# Altium footprint library Osciloscope_library.PcbLib: 12 footprints
Each footprint in its own frame and in the unit in brackets; x right, y up, seen from the top. Pads: shape width x height; smd on the part's side, far side on the other; paste and mask are expansions set on the pad; w line width, h text height; cw(c..) or ccw(c..) is an arc to the next point about the centre after c.
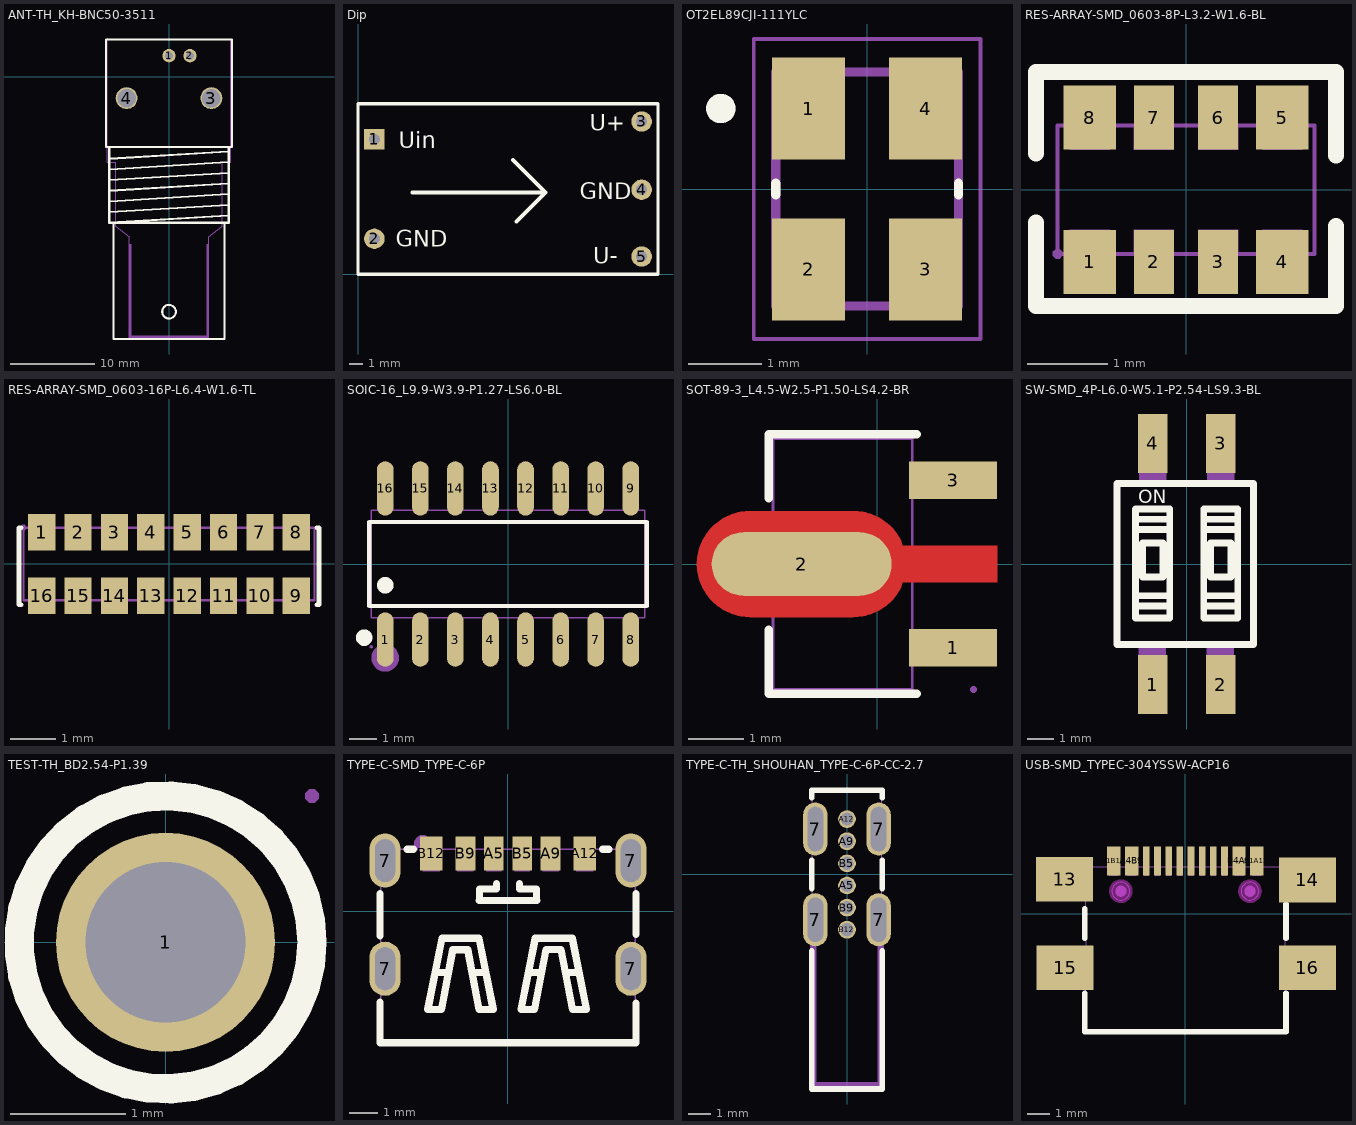
[diagram p0: the footprints below, top view; thin cyan lines are the x and y axes]

## ANT-TH_KH-BNC50-3511 [mm]
pads (4):
  round 1.6 hole 1 paste-2539.97 mask+0.05: 1(0,2.525) 2(2.5,2.525)
  round 2.601 hole 2.2 paste-2539.97 mask+0.05: 3(5.05,-2.525) 4(-5.05,-2.525)
Top Overlay:
  circle w0.254: c0,-27.955 r0.813
  lines w0.254: -7.112,-8.346 -7.112,-17.363 -7.087,-17.363 ; -7.087,-16.093 7.087,-15.23 ; -7.087,-14.823 7.087,-13.96 ; -7.087,-13.553 7.087,-12.69 ; -7.087,-12.283 7.087,-11.42 ; -7.087,-11.013 7.087,-10.15 ; -7.087,-9.743 7.087,-8.88 ; 7.087,-16.5 -7.087,-17.363 ; 7.112,-8.346 7.112,-17.363 6.604,-17.363 ; -7.087,-17.363 -6.604,-17.363 ; -6.604,-17.363 -6.604,-31.206 6.604,-31.206 6.604,-17.363 ; -6.604,-17.363 6.604,-17.363 ; -7.493,-8.342 7.493,-8.342 7.493,4.46 -7.493,4.46 -7.493,-8.342
Mechanical 6:
  region: 4.7,-19.9 4.7,-31 -4.7,-31 -4.7,-19.9 -4.5,-19.9 -4.5,-30.8 4.5,-30.8 4.5,-19.9
Mechanical 15:
  region: -4.15,-3.425 -5.95,-3.425 -5.95,-1.625 -4.15,-1.625
  region: 5.95,-3.425 4.15,-3.425 4.15,-1.625 5.95,-1.625
  region: -7.29,4.46 -7.291,4.484 -7.326,4.518 -7.374,4.518 -7.409,4.484 -7.41,4.46 -7.409,4.436 -7.374,4.402 -7.326,4.402 -7.291,4.436 -7.29,4.46
  region: 0.3,2.525 0.299,2.584 0.253,2.693 0.169,2.777 0.059,2.822 -0.059,2.822 -0.169,2.777 -0.253,2.693 -0.299,2.584 -0.3,2.525 -0.299,2.466 -0.253,2.357 -0.169,2.273 -0.059,2.228 0.059,2.228 0.169,2.273 0.253,2.357 0.299,2.466 0.3,2.525
  region: 2.8,2.525 2.799,2.584 2.753,2.693 2.669,2.777 2.559,2.822 2.441,2.822 2.331,2.777 2.247,2.693 2.201,2.584 2.2,2.525 2.201,2.466 2.247,2.357 2.331,2.273 2.441,2.228 2.559,2.228 2.669,2.273 2.753,2.357 2.799,2.466 2.8,2.525
  lines w0.051: -7.35,-10.16 -6.35,-10.16 -6.35,-17.78 -4.75,-19.05 -4.75,-31.04 4.75,-31.04 4.75,-19.05 6.35,-17.78 6.35,-10.16 7.35,-10.16 7.35,4.46 -7.35,4.46 -7.35,-10.16
3D body "73100-0131.STEP": height 13.25, standoff -4.98, extent -7.412,-30.379 7.348,4.801

## Dip [mm]
pads (5):
  rect 1.5x1.5 hole 0.8: 1(1.199,9.9)
  round 1.5 hole 0.8: 2(1.2,2.6) 3(20.8,11.2) 4(20.8,6.2) 5(20.8,1.3)
Top Overlay:
  lines w0.254: 0,0 22,0 22,12.5 12.5,12.5 0,12.5 0,0
  lines w0.3: 4,6 13.75,6 ; 11.375,8.375 13.75,6 ; 11.625,3.875 13.75,6
  text "U-" at 17.254,0.754 h1.2
  text "U+" at 17.004,10.504 h1.2
  text "GND" at 16.254,5.504 h1.2
  text "GND" at 2.754,2.004 h1.2
  text "Uin" at 3.004,9.254 h1.2

## OT2EL89CJI-111YLC [mm]
height 1.2
pads (4):
  rect 1x1.4 smd: 1(-0.8,1.1) 2(-0.8,-1.1) 3(0.8,-1.1) 4(0.8,1.1)
Top Overlay:
  circle w0.2: c-2,1.1 r0.1
  lines w0.127: -1.25,-0.08 -1.25,0.08 ; 1.25,-0.08 1.25,0.08
Mechanical 13:
  circle w0.2: c-2,1.1 r0.1
  lines w0.127: -1.25,-1.6 -1.25,1.6 1.25,1.6 1.25,-1.6 -1.25,-1.6
Mechanical 15:
  lines w0.05: -1.55,-2.05 -1.55,2.05 1.55,2.05 1.55,-2.05 -1.55,-2.05
3D body "ECS-250-6-33B2-CTN-TR3.STEP": height 1.25, standoff -1.25, extent -1.6,-0.254 1.6,0.546

## RES-ARRAY-SMD_0603-8P-L3.2-W1.6-BL [mm]
pads (8):
  rect 0.65x0.8 smd paste+0 mask+0.051: 1(-1.2,-0.9) 4(1.2,-0.9) 5(1.2,0.9) 8(-1.2,0.9)
  rect 0.5x0.8 smd paste+0 mask+0.051: 2(-0.4,-0.9) 3(0.4,-0.9) 6(0.4,0.9) 7(-0.4,0.9)
Top Overlay:
  lines w0.2: -1.87,-0.41 -1.87,-1.45 1.87,-1.45 1.87,-0.45 ; -1.87,0.45 -1.87,1.47 1.87,1.47 1.87,0.43
Mechanical 15:
  region: -1.54,-0.8 -1.54,-0.775 -1.575,-0.74 -1.625,-0.74 -1.66,-0.775 -1.66,-0.8 -1.66,-0.825 -1.625,-0.86 -1.575,-0.86 -1.54,-0.825 -1.54,-0.8
  region: -1.45,-0.8 -1.45,-0.5 -0.95,-0.5 -0.95,-0.8
  region: -1.45,0.5 -1.45,0.8 -0.95,0.8 -0.95,0.5
  region: -0.65,-0.8 -0.65,-0.5 -0.15,-0.5 -0.15,-0.8
  region: 0.15,-0.8 0.15,-0.5 0.65,-0.5 0.65,-0.8
  region: 0.15,0.5 0.15,0.8 0.65,0.8 0.65,0.5
  region: 0.95,-0.8 0.95,-0.5 1.45,-0.5 1.45,-0.8
  region: -0.65,0.5 -0.65,0.8 -0.15,0.8 -0.15,0.5
  region: 0.95,0.5 0.95,0.8 1.45,0.8 1.45,0.5
  lines w0.051: -1.6,-0.8 -1.6,0.8 1.6,0.8 1.6,-0.8 -1.6,-0.8

## RES-ARRAY-SMD_0603-16P-L6.4-W1.6-TL [mm]
pads (16):
  rect 0.6x0.8 smd paste+0 mask+0.05: 1(-2.8,0.7) 2(-2,0.7) 3(-1.2,0.7) 4(-0.4,0.7) 5(0.4,0.7) 6(1.2,0.7) 7(2,0.7) 8(2.8,0.7) 9(2.8,-0.7) 10(2,-0.7) 11(1.2,-0.7) 12(0.4,-0.7) 13(-0.4,-0.7) 14(-1.2,-0.7) 15(-2,-0.7) 16(-2.8,-0.7)
Top Overlay:
  lines w0.1: -3.254,-0.9 -3.3,-0.9 -3.3,0.8 -3.254,0.8 ; 3.254,-0.9 3.3,-0.9 3.3,0.8 3.254,0.8
Mechanical 15:
  region: -3.14,0.8 -3.14,0.825 -3.175,0.86 -3.225,0.86 -3.26,0.825 -3.26,0.8 -3.26,0.775 -3.225,0.74 -3.175,0.74 -3.14,0.775 -3.14,0.8
  region: -3.05,-0.8 -3.05,-0.4 -2.55,-0.4 -2.55,-0.8
  region: -2.25,-0.8 -2.25,-0.4 -1.75,-0.4 -1.75,-0.8
  region: -1.45,-0.8 -1.45,-0.4 -0.95,-0.4 -0.95,-0.8
  region: -0.65,-0.8 -0.65,-0.4 -0.15,-0.4 -0.15,-0.8
  region: 0.15,-0.8 0.15,-0.4 0.65,-0.4 0.65,-0.8
  region: 0.95,-0.8 0.95,-0.4 1.45,-0.4 1.45,-0.8
  region: 1.75,-0.8 1.75,-0.4 2.25,-0.4 2.25,-0.8
  region: 2.55,-0.8 2.55,-0.4 3.05,-0.4 3.05,-0.8
  region: 2.55,0.4 2.55,0.8 3.05,0.8 3.05,0.4
  region: 1.75,0.4 1.75,0.8 2.25,0.8 2.25,0.4
  region: 0.95,0.4 0.95,0.8 1.45,0.8 1.45,0.4
  region: 0.15,0.4 0.15,0.8 0.65,0.8 0.65,0.4
  region: -0.65,0.4 -0.65,0.8 -0.15,0.8 -0.15,0.4
  region: -1.45,0.4 -1.45,0.8 -0.95,0.8 -0.95,0.4
  region: -2.25,0.4 -2.25,0.8 -1.75,0.8 -1.75,0.4
  region: -3.05,0.4 -3.05,0.8 -2.55,0.8 -2.55,0.4
  lines w0.051: -3.2,-0.8 -3.2,0.8 3.2,0.8 3.2,-0.8 -3.2,-0.8

## SOIC-16_L9.9-W3.9-P1.27-LS6.0-BL [mm]
pads (16):
  oval 0.602x1.971 smd paste+0 mask+0.051: 1(-4.445,-2.736) 2(-3.175,-2.736) 3(-1.905,-2.736) 4(-0.635,-2.736) 5(0.635,-2.736) 6(1.905,-2.736) 7(3.175,-2.736) 8(4.445,-2.736) 9(4.445,2.736) 10(3.175,2.736) 11(1.905,2.736) 12(0.635,2.736) 13(-0.635,2.736) 14(-1.905,2.736) 15(-3.175,2.736) 16(-4.445,2.736)
Top Overlay:
  circle w0.3: c-5.207,-2.667 r0.15
  circle w0.3: c-4.445,-0.769 r0.15
  lines w0.152: -5.026,-1.521 5.026,-1.521 5.026,1.521 -5.026,1.521 -5.026,-1.521
Mechanical 6:
  circle w0.5: c-4.445,-3.4 r0.25
Mechanical 15:
  drawing of 37 lines, arcs and shapes, not listed

## SOT-89-3_L4.5-W2.5-P1.50-LS4.2-BR [mm]
pads (3):
  rect 1.575x0.672 smd paste+0 mask+0.051: 1(1.356,-1.5) 3(1.356,1.5)
  oval 3.226x1.14 smd: 2(-1.356,0)
Top Layer:
  region: -2.283,0.95 -0.429,0.95 -0.384,0.949 -0.34,0.946 -0.296,0.94 -0.252,0.933 -0.208,0.924 -0.165,0.912 -0.123,0.899 -0.081,0.884 -0.04,0.866 0,0.847 0.04,0.826 0.078,0.803 0.115,0.779 0.151,0.752 0.185,0.724 0.219,0.695 0.251,0.664 0.281,0.631 0.31,0.597 0.337,0.562 0.362,0.525 0.386,0.488 0.408,0.449 0.428,0.409 0.447,0.33 2.144,0.33 2.144,-0.33 0.447,-0.33 0.428,-0.409 0.408,-0.449 0.386,-0.488 0.362,-0.526 0.337,-0.562 0.31,-0.597 0.281,-0.631 0.251,-0.664 0.219,-0.695 0.185,-0.725 0.151,-0.753 0.115,-0.779 0.078,-0.804 0.04,-0.827 0,-0.848 -0.04,-0.867 -0.081,-0.884 -0.123,-0.899 -0.165,-0.913 -0.208,-0.924 -0.252,-0.934 -0.296,-0.941 -0.34,-0.946 -0.384,-0.949 -0.429,-0.95 -2.283,-0.95 -2.328,-0.949 -2.372,-0.946 -2.416,-0.941 -2.46,-0.934 -2.504,-0.924 -2.547,-0.913 -2.589,-0.899 -2.631,-0.884 -2.672,-0.867 -2.713,-0.848 -2.752,-0.827 -2.79,-0.804 -2.827,-0.779 -2.863,-0.753 -2.898,-0.725 -2.931,-0.695 -2.963,-0.664 -2.993,-0.631 -3.022,-0.597 -3.049,-0.562 -3.075,-0.526 -3.098,-0.488 -3.12,-0.449 -3.141,-0.409 -3.159,-0.369 -3.175,-0.327 -3.189,-0.285 -3.202,-0.242 -3.212,-0.199 -3.22,-0.155 -3.227,-0.111 -3.231,-0.067 -3.233,-0.022 -3.233,0.022 -3.231,0.067 -3.227,0.111 -3.22,0.155 -3.212,0.199 -3.202,0.242 -3.189,0.285 -3.175,0.327 -3.159,0.369 -3.141,0.409 -3.12,0.449 -3.098,0.488 -3.075,0.525 -3.049,0.562 -3.022,0.597 -2.993,0.631 -2.963,0.664 -2.931,0.695 -2.898,0.724 -2.863,0.752 -2.827,0.779 -2.79,0.803 -2.752,0.826 -2.713,0.847 -2.672,0.866 -2.631,0.884 -2.589,0.899 -2.547,0.912 -2.504,0.924 -2.46,0.933 -2.416,0.94 -2.372,0.946 -2.328,0.949
Top Overlay:
  lines w0.152: -1.95,-1.177 -1.95,-2.326 0.702,-2.326 ; -1.95,1.177 -1.95,2.326 0.702,2.326
Mechanical 6:
  circle w0.3: c1.715,-1.5 r0.15
Mechanical 15:
  region: 1.784,-2.25 1.784,-2.225 1.749,-2.19 1.699,-2.19 1.664,-2.225 1.664,-2.25 1.664,-2.275 1.699,-2.31 1.749,-2.31 1.784,-2.275 1.784,-2.25
  region: 0.439,-0.26 1.724,-0.26 1.724,0.26 0.439,0.26 -0.136,0.863 -2,0.863 -2.471,0.288 -2.471,-0.287 -2,-0.862 -0.136,-0.862
  region: 0.624,-1.25 1.724,-1.25 1.724,-1.75 0.624,-1.75
  region: 0.624,1.75 1.724,1.75 1.724,1.25 0.624,1.25
  lines w0.051: -1.874,-2.25 -1.874,2.25 0.626,2.25 0.626,-2.25 -1.874,-2.25

## SW-SMD_4P-L6.0-W5.1-P2.54-LS9.3-BL [mm]
pads (4):
  rect 1.1x2.2 smd paste+0 mask+0.05: 1(-1.27,-4.5) 2(1.27,-4.5) 3(1.27,4.5) 4(-1.27,4.5)
Top Overlay:
  lines w0.254: -1.905,-1.569 -0.635,-1.569 ; -1.905,-1.188 -0.635,-1.188 ; -1.905,1.288 -0.635,1.288 ; -1.905,1.669 -0.635,1.669 ; 0.635,-1.569 1.905,-1.569 ; 0.635,-1.188 1.905,-1.188 ; 0.635,1.288 1.905,1.288 ; 0.635,1.669 1.905,1.669 ; -2.6,-3 2.5,-3 2.5,3 -2.6,3 -2.6,-3 ; -1.905,-2.014 -0.635,-2.014 -0.635,2.05 -1.905,2.05 -1.905,-2.014 ; -1.651,-0.49 -0.889,-0.49 -0.889,0.78 -1.651,0.78 -1.651,-0.49 ; 0.635,-2.014 1.905,-2.014 1.905,2.05 0.635,2.05 0.635,-2.014 ; 0.889,-0.49 1.651,-0.49 1.651,0.78 0.889,0.78 0.889,-0.49
  text "ON" at -1.806,2.264 h0.5
Mechanical 15:
  region: -0.784,-3.854 -1.784,-3.854 -1.784,-2.984 -0.784,-2.984
  region: -0.97,3.85 -1.57,3.85 -1.57,4.65 -0.97,4.65
  region: 1.57,3.85 0.97,3.85 0.97,4.65 1.57,4.65
  region: -0.97,-4.65 -1.57,-4.65 -1.57,-3.85 -0.97,-3.85
  region: 1.57,-4.65 0.97,-4.65 0.97,-3.85 1.57,-3.85
  region: 1.756,-3.854 0.756,-3.854 0.756,-2.984 1.756,-2.984
  region: -0.767,2.991 -1.767,2.991 -1.767,3.861 -0.767,3.861
  region: 1.773,2.991 0.773,2.991 0.773,3.861 1.773,3.861
  lines w0.051: -2.55,-3 2.55,-3 2.55,3 -2.55,3 -2.55,-3

## TEST-TH_BD2.54-P1.39 [mm]
pads (1):
  round 1.9 hole 1.39 paste-2539.97 mask+0.051: 1(0,0)
Top Overlay:
  circle w0.254: c0,0 r1.27
Mechanical 15:
  region: 1.33,1.27 1.329,1.294 1.294,1.328 1.246,1.328 1.211,1.294 1.21,1.27 1.211,1.246 1.246,1.212 1.294,1.212 1.329,1.246 1.33,1.27
  region: -0.695,0.25 0.695,0.25 0.695,-0.25 -0.695,-0.25
  lines w0.051: -1.27,0 cw(c0,0) 1.27,0 cw(c0,0) -1.27,0

## TYPE-C-SMD_TYPE-C-6P [mm]
pads (10):
  oval 1.1x1.9 hole 0.7 slot 1.5 at 90 deg: 7(-4.32,-2.025) 7(-4.32,1.775) 7(4.32,-2.025) 7(4.32,1.775)
  rect 0.7x1.2 smd paste-100 mask+0.051: A5(-0.5,2.025) A9(1.5,2.025) B5(0.5,2.025) B9(-1.5,2.025)
  rect 0.8x1.2 smd paste-100 mask+0.051: A12(2.7,2.025) B12(-2.7,2.025)
Top Overlay:
  lines w0.25: -4.501,-3.226 -4.501,-3.203 -4.501,-4.626 4.501,-4.626 4.501,-3.226 ; -4.5,-0.867 -4.5,0.575 -4.5,0.617 ; -3.541,2.175 -3.329,2.175 ; -1.01,0.375 1.01,0.375 ; -1,0.375 -1,0.775 -0.4,0.775 -0.4,0.975 ; 0.4,0.975 0.4,0.775 1,0.775 1,0.375 ; 3.329,2.175 3.541,2.175 ; 4.5,-0.825 4.5,0.625
  lines w0.254: -2.518,-2.158 -2.119,-2.158 ; -1.219,-2.157 -0.819,-2.157 ; 0.759,-2.153 1.158,-2.153 ; 2.058,-2.152 2.458,-2.152 ; -2.818,-3.458 -2.32,-0.956 -1.019,-0.956 -0.519,-3.458 -1.014,-3.458 -1.413,-1.358 -1.941,-1.358 -2.343,-3.458 -2.818,-3.458 ; 0.459,-3.453 0.957,-0.951 2.257,-0.951 2.758,-3.453 2.263,-3.453 1.864,-1.353 1.335,-1.353 0.934,-3.453 0.459,-3.453
Top Paste:
  drawing of 10 lines, arcs and shapes, not listed
Mechanical 6:
  circle w0.3: c-3,2.375 r0.15
Mechanical 15:
  region: 4.53,-4.625 4.53,-4.6 4.495,-4.565 4.445,-4.565 4.41,-4.6 4.41,-4.625 4.41,-4.65 4.445,-4.685 4.495,-4.685 4.53,-4.65 4.53,-4.625
  region: 4.17,2.175 4.47,2.175 4.47,1.375 4.17,1.375
  region: 4.17,-1.625 4.47,-1.625 4.47,-2.425 4.17,-2.425
  region: -4.47,-1.625 -4.17,-1.625 -4.17,-2.425 -4.47,-2.425
  region: -4.47,2.175 -4.17,2.175 -4.17,1.375 -4.47,1.375
  region: -0.76,2.15 -0.24,2.15 -0.24,1.4 -0.76,1.4
  region: 0.24,2.15 0.76,2.15 0.76,1.4 0.24,1.4
  region: 1.22,2.15 1.78,2.15 1.78,1.4 1.22,1.4
  region: -1.78,2.15 -1.22,2.15 -1.22,1.4 -1.78,1.4
  region: 2.4,2.15 3,2.15 3,1.4 2.4,1.4
  region: -3,2.15 -2.4,2.15 -2.4,1.4 -3,1.4
  lines w0.051: -4.47,-4.625 -4.47,2.175 4.47,2.175 4.47,-4.625 -4.47,-4.625

## TYPE-C-TH_SHOUHAN_TYPE-C-6P-CC-2.7 [mm]
pads (10):
  oval 1.1x2.4 hole 0.7 slot 2 at 90 deg paste-2539.97 mask+0.051: 7(-1.43,-2.05) 7(-1.43,2.05) 7(1.43,-2.05) 7(1.43,2.05)
  round 0.8 hole 0.6 paste-2539.97 mask+0.051: A5(0,-0.5) A9(0,1.5) A12(0,2.5) B5(0,0.5) B9(0,-1.5) B12(0,-2.5)
Top Overlay:
  lines w0.25: -1.6,-9.7 1.6,-9.7 ; -1.6,3.8 1.6,3.8
  lines w0.254: -1.6,-9.7 -1.6,-3.462 ; -1.6,-0.638 -1.6,0.638 ; -1.6,3.462 -1.6,3.8 ; 1.6,-9.7 1.6,-3.462 ; 1.6,-0.638 1.6,0.638 ; 1.6,3.462 1.6,3.8
Mechanical 6:
  region: -1.397,-3.302 -1.397,-9.398 1.397,-9.398 1.397,-3.302 1.397,-3.249 1.471,-3.175 1.577,-3.175 1.651,-3.249 1.651,-3.302 1.651,-9.525 1.651,-9.55 1.632,-9.597 1.596,-9.633 1.549,-9.652 1.524,-9.652 -1.524,-9.652 -1.549,-9.652 -1.596,-9.633 -1.632,-9.597 -1.651,-9.55 -1.651,-9.525 -1.651,-3.302 -1.651,-3.249 -1.577,-3.175 -1.471,-3.175 -1.397,-3.249 -1.397,-3.302
Mechanical 15:
  region: -0.1,-2.25 0.1,-2.25 0.1,-2.75 -0.1,-2.75
  region: -0.1,-0.25 0.1,-0.25 0.1,-0.75 -0.1,-0.75
  region: -0.1,0.75 0.1,0.75 0.1,0.25 -0.1,0.25
  region: -0.1,1.75 0.1,1.75 0.1,1.25 -0.1,1.25
  region: -0.1,2.75 0.1,2.75 0.1,2.25 -0.1,2.25
  region: -0.1,-1.25 0.1,-1.25 0.1,-1.75 -0.1,-1.75
  region: 1.33,2.985 1.53,2.985 1.53,1.115 1.33,1.115
  region: 1.33,-1.115 1.53,-1.115 1.53,-2.985 1.33,-2.985
  region: -1.53,-1.115 -1.33,-1.115 -1.33,-2.985 -1.53,-2.985
  region: -1.53,2.985 -1.33,2.985 -1.33,1.115 -1.53,1.115
  region: -1.52,3.8 -1.52,3.825 -1.555,3.86 -1.605,3.86 -1.64,3.825 -1.64,3.8 -1.64,3.775 -1.605,3.74 -1.555,3.74 -1.52,3.775 -1.52,3.8
  lines w0.051: -1.58,-9.7 1.58,-9.7 1.58,3.8 -1.58,3.8 -1.58,-9.7

## USB-SMD_TYPEC-304YSSW-ACP16 [mm]
pads (16):
  rect 2.559x2 smd paste+0 mask+0.05: 13(-5.409,1.552) 14(5.461,1.524) 15(-5.385,-2.409) 16(5.461,-2.413)
  rect 0.6x1.3 smd paste+0 mask+0.05: A1B12(-3.2,2.38) A4B9(-2.4,2.38) B1A12(3.2,2.38) B4A9(2.4,2.38)
  rect 0.3x1.3 smd paste+0 mask+0.05: A5(-1.25,2.38) A6(-0.25,2.38) A7(0.25,2.38) A8(1.25,2.38) B5(1.75,2.38) B6(0.75,2.38) B7(-0.75,2.38) B8(-1.75,2.38)
Top Overlay:
  lines w0.254: -4.5,-3.551 -4.5,-5.27 4.5,-5.27 4.5,-3.551 ; -4.5,-1.089 -4.5,0.23 ; 4.5,-1.089 4.5,0.43
Keep-Out Layer:
  board cut-out: 3.29,1.02 3.29,1.099 3.229,1.246 3.116,1.359 2.969,1.42 2.81,1.42 2.663,1.359 2.551,1.246 2.49,1.099 2.49,1.02 2.49,0.94 2.551,0.793 2.663,0.681 2.81,0.62 2.969,0.62 3.116,0.681 3.229,0.793 3.29,0.94 3.29,1.02
  board cut-out: -2.49,1.02 -2.49,1.099 -2.551,1.246 -2.663,1.359 -2.81,1.42 -2.97,1.42 -3.117,1.359 -3.229,1.246 -3.29,1.099 -3.29,1.02 -3.29,0.94 -3.229,0.793 -3.116,0.681 -2.969,0.62 -2.81,0.62 -2.663,0.681 -2.551,0.793 -2.49,0.94 -2.49,1.02
Mechanical 1:
  circle w0.025: c2.89,1.02 r0.4
  circle w0.025: c-2.89,1.02 r0.4
Mechanical 6:
  circle w0.25: c2.89,1.02 r0.125
  circle w0.25: c-2.89,1.02 r0.125
Mechanical 15:
  region: -5.615,2.37 -5.616,2.394 -5.651,2.429 -5.7,2.429 -5.734,2.394 -5.735,2.37 -5.734,2.345 -5.699,2.311 -5.65,2.311 -5.616,2.345 -5.615,2.37
  region: 4.365,2.13 5.665,2.13 5.665,1.03 4.365,1.03
  region: -5.675,2.13 -4.375,2.13 -4.375,1.03 -5.675,1.03
  region: -5.675,-1.72 -4.375,-1.72 -4.375,-2.92 -5.675,-2.92
  region: 4.365,-1.72 5.665,-1.72 5.665,-2.92 4.365,-2.92
  region: -3.4,2.37 -3,2.37 -3,1.72 -3.4,1.72
  region: -2.6,2.37 -2.2,2.37 -2.2,1.72 -2.6,1.72
  region: 2.2,2.37 2.6,2.37 2.6,1.72 2.2,1.72
  region: 3,2.37 3.4,2.37 3.4,1.72 3,1.72
  region: -1.85,2.37 -1.65,2.37 -1.65,1.72 -1.85,1.72
  region: -1.35,2.37 -1.15,2.37 -1.15,1.72 -1.35,1.72
  region: -0.85,2.37 -0.65,2.37 -0.65,1.72 -0.85,1.72
  region: -0.35,2.37 -0.15,2.37 -0.15,1.72 -0.35,1.72
  region: 0.15,2.37 0.35,2.37 0.35,1.72 0.15,1.72
  region: 0.65,2.37 0.85,2.37 0.85,1.72 0.65,1.72
  region: 1.15,2.37 1.35,2.37 1.35,1.72 1.15,1.72
  region: 1.65,2.37 1.85,2.37 1.85,1.72 1.65,1.72
  lines w0.051: -4.48,2.12 4.47,2.12 4.47,-5.24 -4.47,-5.24 -4.47,-2.14 -4.48,2.12
Multi-Layer keep-out:
  circle w0.254: c2.89,1.02 r0.4
  circle w0.254: c-2.89,1.02 r0.4
3D body "USB_C_USB4135-GF-A.stp": height 3.23, standoff -0.02, extent -5.498,-5.27 5.642,1.63